# EAGLE library part DB9-F (library Connectors)
MULTICOMP - 5504F1-09P-02A-03 - CONNECTOR, D SUB, PLUG, THT, R/A, 9WAY Source: Datasheet <http://www.farnell.com/datasheets/1850778.pdf>
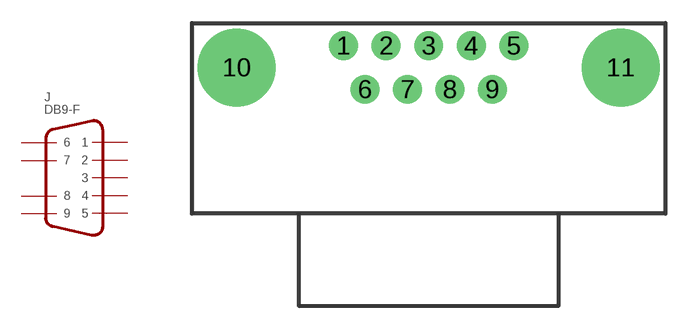
[diagram p6: symbol with the pads of DB9-FEMALE; footprint DB9-FEMALE]

Designator prefix J

## DB9-F (DESCRIPTION: value; LINK: value; MANUFACTURER: value; PACKAGE: value; PART_NUMBER: value)  [DB9-FEMALE]
1  1
2  2
3  3
4  4
5  5
6  6
7  7
8  8
9  9

## Footprint DB9-FEMALE (pad centres in mm)
5504F1-09P-02A-03
drill 1.016 pad 1.88: 1 -5.54,1.42; 2 -2.77,1.42; 3 0,1.42; 4 2.77,1.42; 5 5.54,1.42; 6 -4.155,-1.42; 7 -1.385,-1.42; 8 1.385,-1.42; 9 4.155,-1.42
drill 3.2 pad 5.08: 10 -12.495,0; 11 12.495,0